# Altium schematic symbol library OSTB1204C1E.SchLib: 1 symbol
Pins are listed as number, name and electrical type; pins without a type are passive.

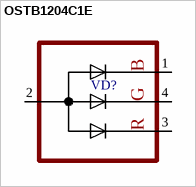
[diagram p0: symbol OSTB1204C1E]

## OSTB1204C1E
designator VD?
pins: 1, 2, 3, 4
text: B; G; R